# Altium footprint library SnapEDApcb.PcbLib: 1 footprints
Each footprint in its own frame and in the unit in brackets; x right, y up, seen from the top. Pads: shape width x height; smd on the part's side, far side on the other; paste and mask are expansions set on the pad; w line width, h text height; cw(c..) or ccw(c..) is an arc to the next point about the centre after c.
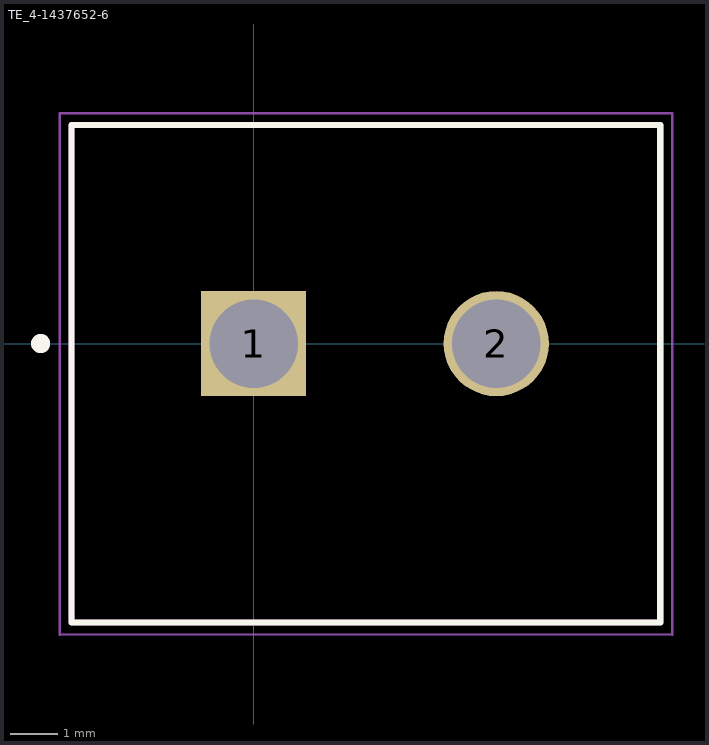
[diagram p0: the footprint, top view; thin cyan lines are the x and y axes]

## TE_4-1437652-6 [mil]
pads (2):
  rect 86.78x86.78 hole 72.99: 1(0,0)
  round 86.78 hole 72.99: 2(200,0)
Top Overlay:
  circle w7.87: c-175.59,0 r3.94
  lines w5: 335,-230 -150,-230 -150,180 335,180 ; 335.2,-230 335.2,180
Mechanical 13:
  circle w7.87: c-175.59,0 r3.94
  lines w5: 335,180 -150,180 -150,-230 ; 335.2,-230 335.2,180 ; -150,-230 335,-230 -150,-230
Mechanical 15:
  lines w1.97: -160,-239.84 345,-239.84 ; -160,189.84 345,189.84 ; -159.84,-240 -159.84,189.84 ; 345.04,-240 345.04,189.84
3D body "Download_STP_691216510002S_rev1.stp": height 543.31, standoff -137.8, extent -116.81,-215 306.81,170.83